# Altium schematic symbol library CD4072BM96.SchLib: 1 symbol
Pins are listed as number, name and electrical type; pins without a type are passive.

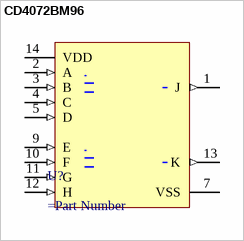
[diagram p0: symbol CD4072BM96]

## CD4072BM96
designator U?
=Description
pins: 1 J (out), 2 A (in), 3 B (in), 4 C (in), 5 D (in), 7 VSS (power), 9 E (in), 10 F (in), 11 G (in), 12 H (in), 13 K (out), 14 VDD (power)